# EAGLE library part DS3231 (library PiB)
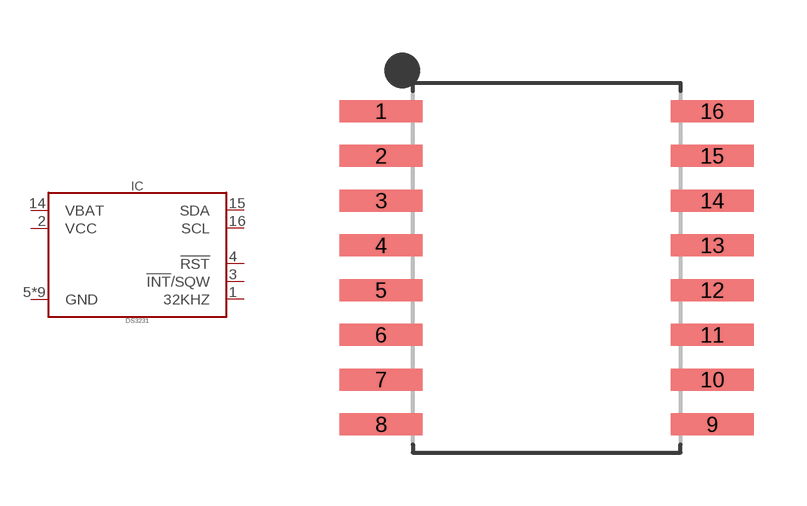
[diagram p17: symbol with the pads of SOIC127P1032X265-16; footprint SOIC127P1032X265-16]

Designator prefix IC

## DS3231_DS3231_RTC_CLK_I2C_SOIC-16 (DATASHEET: https://datasheets.maximintegrated.com/en/ds/DS3231-DS3231S.pdf; DIST: Digikey; DISTLINK: https://www.digikey.com/products/en?keywords=DS3231S%23T%26RCT-ND; DISTPN: DS3231S#T&RCT-ND; MFR: Maxim Integrated; MPN: DS3231S#T&R; VALUE: DS3231)  [SOIC127P1032X265-16]
1  32KHZ
2  VCC
3  !INT!/SQW
4  !RST
5  GND
6  GND
7  GND
8  GND
9  GND
10  GND
11  GND
12  GND
13  GND
14  VBAT
15  SDA
16  SCL

## Footprint SOIC127P1032X265-16 (pad centres in mm)
16-SOIC, 1.27 mm pitch, 10.32 mm span, 10.30 X 7.50 X 2.65 mm body 16-pin SOIC package with 1.27 mm pitch, 10.32 mm span with body size 10.30 X 7.50 X 2.65 mm
smd 2.352 x 0.629: 1 -4.704,4.445; 2 -4.704,3.175; 3 -4.704,1.905; 4 -4.704,0.635; 5 -4.704,-0.635; 6 -4.704,-1.905; 7 -4.704,-3.175; 8 -4.704,-4.445; 9 4.704,-4.445; 10 4.704,-3.175; 11 4.704,-1.905; 12 4.704,-0.635; 13 4.704,0.635; 14 4.704,1.905; 15 4.704,3.175; 16 4.704,4.445